# EAGLE library part ICM7242IPAZ (library Intersil_By_element14_Batch_1)
Long Range Fixed Timer
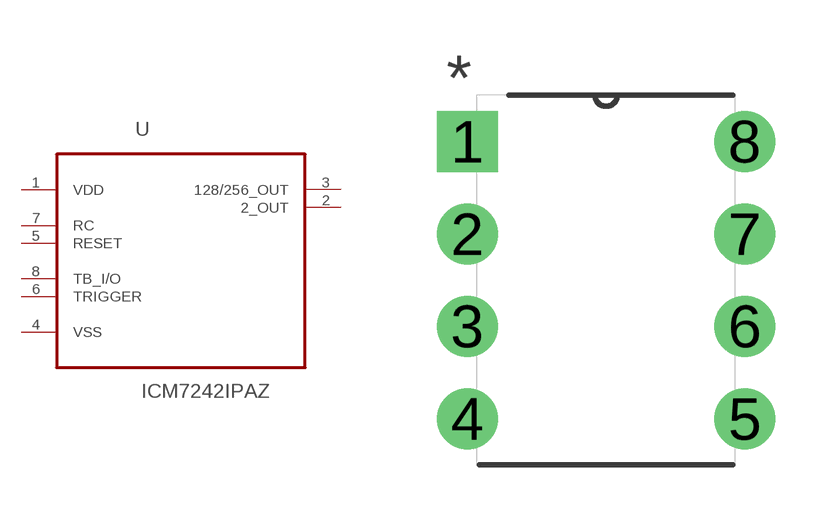
[diagram p207: symbol with the pads of DIP254P762X533-8; footprint DIP254P762X533-8]

Designator prefix U

## ICM7242IPAZ (MPN: ICM7242IPAZ; OC_FARNELL: 1216113; OC_NEWARK: 79K6933; PACKAGE: PDIP-8; SUPPLIER: INTERSIL)  [DIP254P762X533-8]
1  VDD  pwr
2  2_OUT  out
3  128/256_OUT  out
4  VSS  pas
5  RESET  in
6  TRIGGER  in
7  RC  in
8  TB_I/O

## Footprint DIP254P762X533-8 (pad centres in mm)
drill 1.118 square: 1 -7.62,7.62
drill 1.118: 2 -7.62,5.08; 3 -7.62,2.54; 4 -7.62,0; 5 0,0; 6 0,2.54; 7 0,5.08; 8 0,7.62